# Altium footprint library SHDR32W60P0X254_1X32_8178X250X850P.PcbLib: 1 footprints
Each footprint in its own frame and in the unit in brackets; x right, y up, seen from the top. Pads: shape width x height; smd on the part's side, far side on the other; paste and mask are expansions set on the pad; w line width, h text height; cw(c..) or ccw(c..) is an arc to the next point about the centre after c.
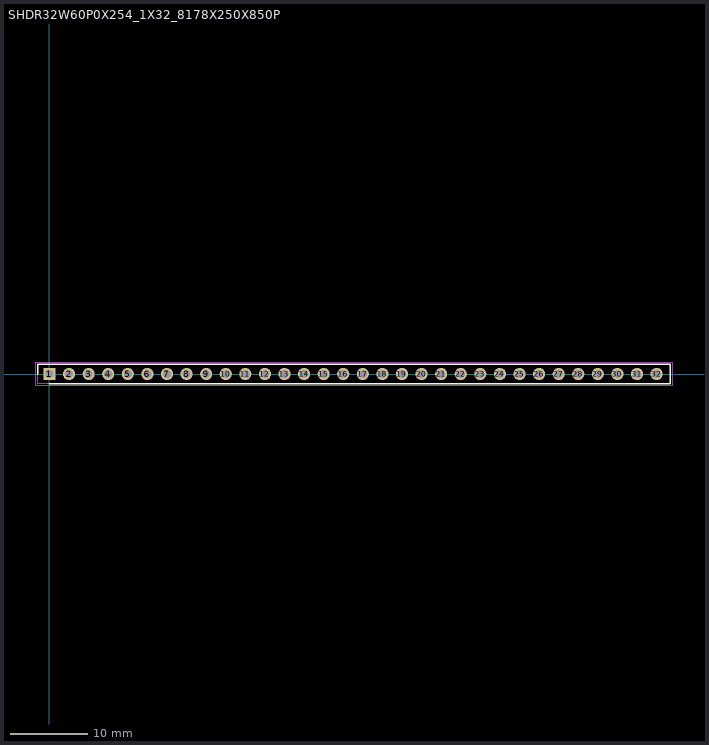
[diagram p0: the footprint, top view; thin cyan lines are the x and y axes]

## SHDR32W60P0X254_1X32_8178X250X850P [mm]
pads (32):
  rect 1.575x1.575 / inner round 1.575 / far side rect 1.575x1.575 hole 1.05: 1(0,0)
  round 1.575 hole 1.05: 2(2.54,0) 3(5.08,0) 4(7.62,0) 5(10.16,0) 6(12.7,0) 7(15.24,0) 8(17.78,0) 9(20.32,0) 10(22.86,0) 11(25.4,0) 12(27.94,0) 13(30.48,0) 14(33.02,0) 15(35.56,0) 16(38.1,0) 17(40.64,0) 18(43.18,0) 19(45.72,0) 20(48.26,0) 21(50.8,0) 22(53.34,0) 23(55.88,0) 24(58.42,0) 25(60.96,0) 26(63.5,0) 27(66.04,0) 28(68.58,0) 29(71.12,0) 30(73.66,0) 31(76.2,0) 32(78.74,0)
Top Overlay:
  lines w0.2: -1.52,0 -1.52,1.25 80.51,1.25 80.51,-1.25 0,-1.25
Mechanical 15:
  lines w0.1: -1.52,-1.25 -1.52,1.25 80.51,1.25 80.51,-1.25 -1.52,-1.25
Mechanical 20:
  lines w0.05: -1.77,-1.5 -1.77,1.5 80.76,1.5 80.76,-1.5 -1.77,-1.5